# EAGLE library part X07X2 (library connectors)
Connector 2x7 pins
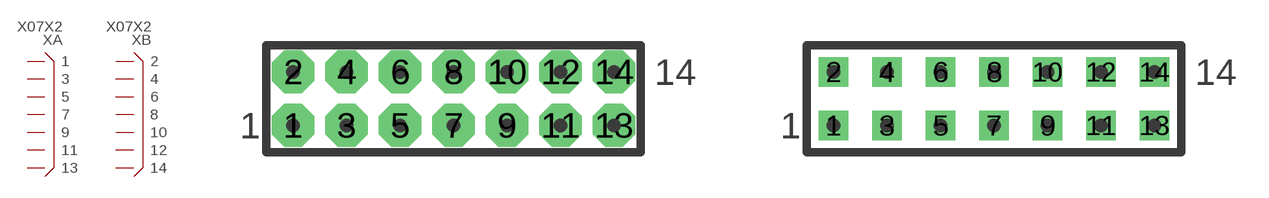
[diagram p50: symbol with the pads of X14N-DIL; footprints X14N-DIL, X14R-DIL]

Designator prefix X; gates A=X14A B=X14B

## X07X2D  [X14N-DIL]
1  A:1
2  B:2
3  A:3
4  B:4
5  A:5
6  B:6
7  A:7
8  B:8
9  A:9
10  B:10
11  A:11
12  B:12
13  A:13
14  B:14

## X07X2DR  [X14R-DIL]
Pads as for X14N-DIL

## X07X2I  [X14N-IDC]
Pads as for X14N-DIL

## X07X2  [X14N-IDC]
Pads as for X14N-DIL

## X07X2IR  [X14R-IDC]
Pads as for X14N-DIL

## Footprint X14N-DIL (pad centres in mm)
Connector 14 pins, DIL
drill 0.889 pad 2.032 octagon: 1 -7.62,-1.27; 2 -7.62,1.27; 3 -5.08,-1.27; 4 -5.08,1.27; 5 -2.54,-1.27; 6 -2.54,1.27; 7 0,-1.27; 8 0,1.27; 9 2.54,-1.27; 10 2.54,1.27; 11 5.08,-1.27; 12 5.08,1.27; 13 7.62,-1.27; 14 7.62,1.27

## Footprint X14R-DIL (pad centres in mm)
Connector 14 pins, DIL, reduced pads
drill 0.889 pad 1.397 square: 1 -7.62,-1.27; 2 -7.62,1.27; 3 -5.08,-1.27; 4 -5.08,1.27; 5 -2.54,-1.27; 6 -2.54,1.27; 7 0,-1.27; 8 0,1.27; 9 2.54,-1.27; 10 2.54,1.27; 11 5.08,-1.27; 12 5.08,1.27; 13 7.62,-1.27; 14 7.62,1.27

## Footprint X14N-IDC (pad centres in mm)
Connector 14 pins, IDC
drill 0.889 pad 2.032 octagon: 1 -7.62,-1.27; 2 -7.62,1.27; 3 -5.08,-1.27; 4 -5.08,1.27; 5 -2.54,-1.27; 6 -2.54,1.27; 7 0,-1.27; 8 0,1.27; 9 2.54,-1.27; 10 2.54,1.27; 11 5.08,-1.27; 12 5.08,1.27; 13 7.62,-1.27; 14 7.62,1.27

## Footprint X14R-IDC (pad centres in mm)
Connector 14 pins, IDC, reduced pads
drill 0.889 pad 1.397 square: 1 -7.62,-1.27; 2 -7.62,1.27; 3 -5.08,-1.27; 4 -5.08,1.27; 5 -2.54,-1.27; 6 -2.54,1.27; 7 0,-1.27; 8 0,1.27; 9 2.54,-1.27; 10 2.54,1.27; 11 5.08,-1.27; 12 5.08,1.27; 13 7.62,-1.27; 14 7.62,1.27